# Altium schematic symbol library Schlib1.SchLib: 12 symbols
Pins are listed as number, name and electrical type; pins without a type are passive.

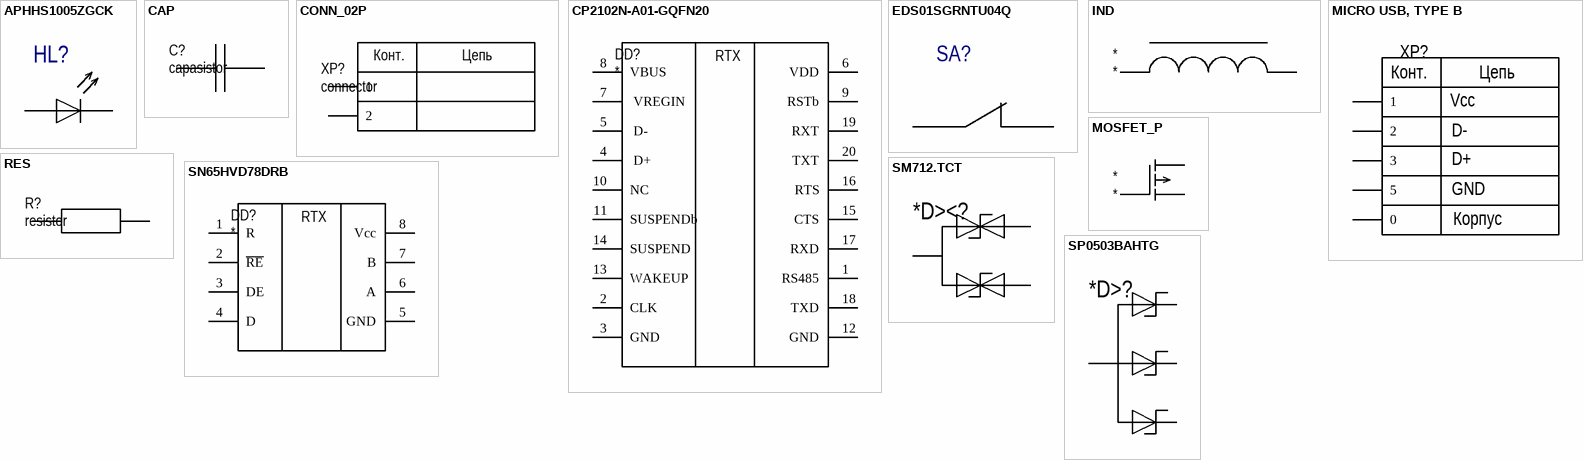
[diagram p0: symbols APHHS1005ZGCK to SP0503BAHTG]

## APHHS1005ZGCK
designator HL?  (value not drawn)
LED GREEN SMD 1.0X0.5MM; Manufacturer: Kingbright; Voltage(V): 2.7; Family: Устройства индикационные и сигнальные; PartNumber: APHHS1005ZGCK; ComponentLink1Description: Параметры; Package: 0402
footprint LED0402 (1.0 x 0.5 mm SMD Chip LED Lamp)
pins: 1 K "Katod", 2 A "Anod"

## CAP
designator C?, comment capasistor
Manufacturer: *; PartNumber: *; Package: *; Capacity: *; Tolerance: *; Voltage: *
footprint CAP0402 (Chip Capacitor, 2-Leads, Body 1,00x0,50mm, IPC High Density)
footprint CAP0603 (Chip Capacitor, 2-Leads, Body 1,60x0,80mm, IPC High Density)
footprint CAP0805 (Chip Capacitor, 2-Leads, Body 2,00x1,25mm, IPC High Density)
pins: 1, 2

## CONN_02P
designator XP?, comment connector
2 pin; Manufacturer: *
footprint CONN_JST_SFH (SM02B-SFHRS-TF)
footprint CONN_JST_SUH_02 (SM02B-SURS-TF)
pins: 1, 2
text: Конт.; Цепь

## CP2102N-A01-GQFN20
designator DD?
USB-to-UART bridge; Manufacturer: Silicon Laboratories; PartNumber: CP2102N-A01-GQFN20; Type1: Преобразователь интерфейсный; Package: QFN20; Family: Схемы интегральные
footprint QFN50P300X300X80_HS-17L (QFN, 16-Leads, Body 3,00x3,00mm, Pitch 0,50mm, Thermal Pad 1,80x1,80mm, IPC High Density)
pins: 1 RS485, 2 CLK, 3 GND, 4  D+, 5  D-, 6 VDD, 7  VREGIN, 8 VBUS, 9 RSTb, 10 NC, 11 SUSPENDb, 12 GND, 13 WAKEUP, 14 SUSPEND, 15 CTS, 16 RTS, 17 RXD, 18 TXD, 19 RXT, 20 TXT
text: RTX

## EDS01SGRNTU04Q
designator SA?, comment EDS01SGRNTU04Q ( 2319848-1)  (value not drawn)
Dip-switch; Manufacturer: TE; Type1: Выключатель движковый модульный; Package: DIP; PartNumber: EDS01SGRNTU04Q ( 2319848-1); ComponentLink1URL: d:\WORK\Altium\Projects\2017-02-01_Prj\DataSheets\IT-1184 Series.pdf; Family: Устройства коммутационные в цепях управления, сигнализации и измерительных
footprint SWITCH_TE (EDS01SGRNTU04Q)
pins: 1, 2

## IND
designator *
Manufacturer: Wurth Electronics; PartNumber: 78438357100; Inductance: 10 мкГн; Current: 2,7А; Package: 4030
footprint WE-MAIA_4030 (SMD Power Inductor, 2-leads, body 4.1x4.1mm)
pins: 1, 2

## MICRO USB, TYPE B
designator XP?
MICRO USB, TYPE B; PartNumber: 2174507-2; Manufacturer: TE connectivity; Type1: Гнездо; Family: Соединения контактные
footprint 2174507-2 (MICRO USB, TYPE B)
pins: 0, 1, 2, 3, 5
text: Конт.; Цепь; Vcc; D-; D+; GND; Корпус

## MOSFET_P
designator *
Manufacturer: *
pins: 1

## RES
designator R?, comment resistor
PartNumber: *; Package: *; Resisrance: *; Tolerance: *; Manufacturer: *
footprint RES0402 (Chip Resistor, 2-Leads, Body 1,05x0,54mm, IPC High Density)
footprint RES0603 (Chip Resistor, 2-Leads, Body 1,60x0,83mm, IPC High Density)
footprint RES0805 (Chip Resistor, 2-Leads, Body 2,00x1,25mm, IPC High Density)
pins: 1, 2

## SM712.TCT
designator *D><?
TVS Diode for RS-485; PartNumber: SM712.TCT; Manufacturer: Semtech; PowerDissipation: 600 Вт; Type1: Диод лавинный сборка; Family: Приборы полупроводниковые; Package/Case: sot-23-3; Package: sot-23-3
footprint SOT95P237X112-3L (SOT23, 3-Leads, Body 2,92x2,37mm, Pitch 0,95mm, IPC High Density)
pins: 1 Catod, 2 Catos, 3 Catod

## SN65HVD78DRB
designator DD?
RS-485 With IEC ESD Protection; Manufacturer: Texas Instruments; PartNumber: SN65HVD78DRB; Type1: Преобразователь интерфейсный; Package: VSON8; Family: Схемы интегральные
footprint SON65P300X100_HS-9L (SON, 8-Leads, Body 3,00x3,00mm, Pitch 0,65mm, Thermal Pad 2,40x1,49mm, IPC High Density)
pins: 1 R, 2 ~{RE}, 3 DE, 4 D, 5 GND, 6 A, 7 B, 8 Vcc
text: RTX

## SP0503BAHTG
designator *D>?
Unidirectional TVS Array; PartNumber: SP0503BAHTG; Manufacturer: Littelfuse; PowerDissipation: 600 Вт; Type1: Диод лавинный сборка; Family: Приборы полупроводниковые; Package/Case: sot-143; Package: sot-143
footprint SOT190P237X122-4N (SOT143, 4-Leads, Body 2,92x2,37mm, Pitch 1,90mm, IPC Medium Density)
pins: 1 Catod, 2 Catod, 3 Catos, 4 Catos